# Altium integrated library HC1-7R8-R.IntLib: 1 symbol
Pins are listed as number, name and electrical type; pins without a type are passive.

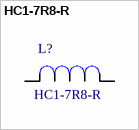
[diagram p0: symbol HC1-7R8-R]

## HC1-7R8-R
designator L?
/ 7.8ÂµH Unshielded Wirewound Inductor 12.79A 5.7mOhm Max Nonstandard /; MF: Eaton; SnapEDA_Link: https://www.snapeda.com/parts/HC1-7R8-R/Eaton/view-part/565774/?ref=snap; MP: HC1-7R8-R; Package: Nonstandard Eaton; Digi-Key_Part_Number: 513-1159-1-ND; Digi-Key_Purchase_URL: https://www.digikey.com/product-detail/en/eaton-electronics-division/HC1-7R8-R/513-1159-1-ND/754657?utm_source=snapeda&utm_medium=aggregator&utm_campaign=symbol; Value: *
footprint *IND_HC1-7R8-R
pins: 1, 2